# EAGLE library part KS01-BL-* (library switch-highly)
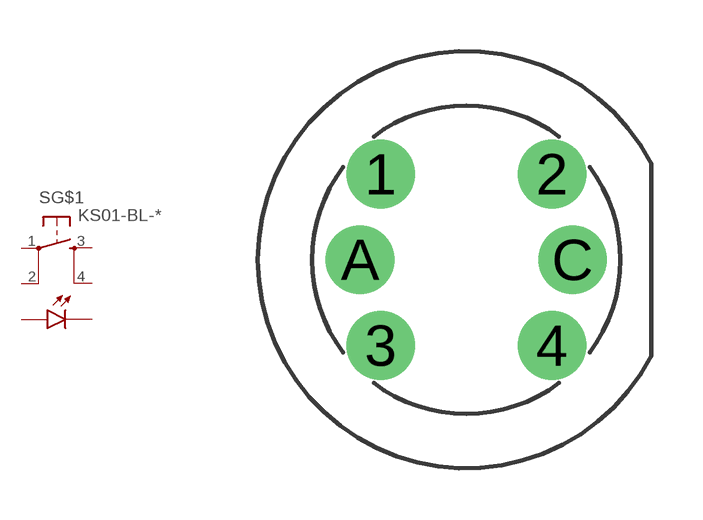
[diagram p0: symbol with the pads of KS01-BL; footprint KS01-BL]

Designator prefix S; gates G$1=BTN G$2=LED

## KS01-BL-1 (LEDCOLOR: Red), KS01-BL-12 (LEDCOLOR: Red / Yellow), KS01-BL-13 (LEDCOLOR: Red / Green), KS01-BL-2 (LEDCOLOR: Yellow), KS01-BL-23 (LEDCOLOR: Yellow / Green), KS01-BL-3 (LEDCOLOR: Green), KS01-BL-4 (LEDCOLOR: Blue), KS01-BL-5 (LEDCOLOR: White), KS01-BL-6 (LEDCOLOR: Pure Green)  [KS01-BL]
1  G$1:1  pas
2  G$1:2  pas
3  G$1:3  pas
4  G$1:4  pas
A  G$2:A  pas
C  G$2:C  pas

## Footprint KS01-BL (pad centres in mm)
Round with backlight
drill 1 pad 2: 1 -2.5,2.5; 2 2.5,2.5; 3 -2.5,-2.5; 4 2.5,-2.5; A -3.1,0; C 3.1,0